# Altium footprint library Littelfuse.PcbLib: 1 footprints
Each footprint in its own frame and in the unit in brackets; x right, y up, seen from the top. Pads: shape width x height; smd on the part's side, far side on the other; paste and mask are expansions set on the pad; w line width, h text height; cw(c..) or ccw(c..) is an arc to the next point about the centre after c.
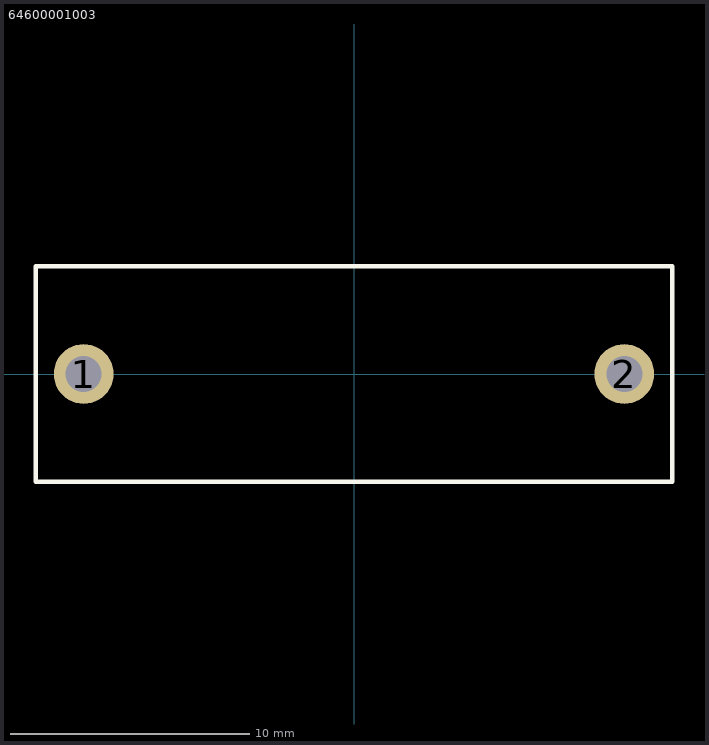
[diagram p0: the footprint, top view; thin cyan lines are the x and y axes]

## 64600001003 [mm] "Fuse holder block"
pads (2):
  round 2.5 hole 1.5: 1(-11.3,0) 2(11.3,0)
Top Overlay:
  lines w0.2: -13.3,-4.5 -13.3,4.5 13.3,4.5 13.3,-4.5 -13.3,-4.5
3D body: height 12, standoff 0, extent -13,-4.5 13,4.5